# Altium footprint library WE-OLRM.PcbLib: 3 footprints
Each footprint in its own frame and in the unit in brackets; x right, y up, seen from the top. Pads: shape width x height; smd on the part's side, far side on the other; paste and mask are expansions set on the pad; w line width, h text height; cw(c..) or ccw(c..) is an arc to the next point about the centre after c.
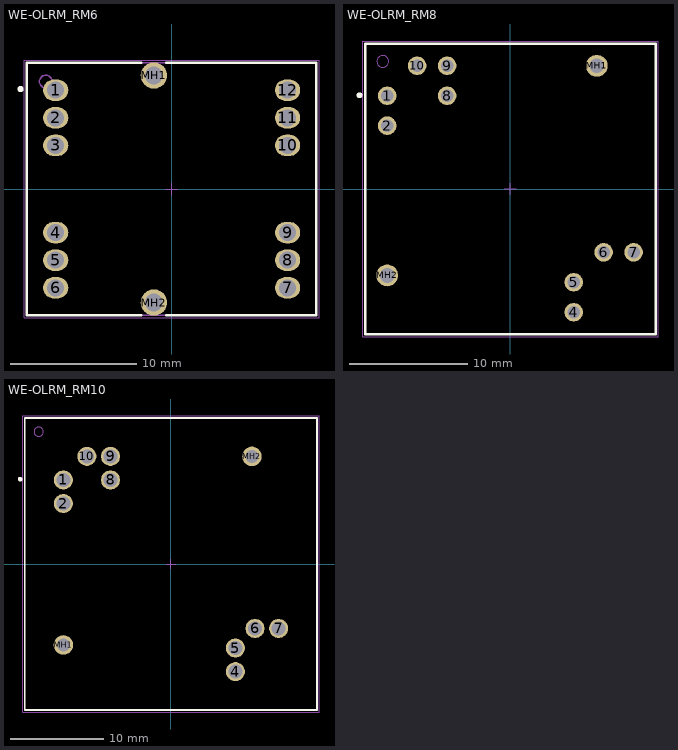
[diagram p0: the footprints below, top view; thin cyan lines are the x and y axes]

## WE-OLRM_RM6 [mm] "Offline Flyback Transformer, THT, body 23 x 20.07 mm"
height 15
pads (14):
  oval 2x1.7 hole 1.35: 1(-9.21,7.845) 2(-9.21,5.655) 3(-9.21,3.465) 4(-9.21,-3.465) 5(-9.21,-5.655) 6(-9.21,-7.845) 7(9.21,-7.845) 8(9.21,-5.655) 9(9.21,-3.465) 10(9.21,3.465) 11(9.21,5.655) 12(9.21,7.845)
  round 2.1 hole 1.4: MH1(-1.41,9.015) MH2(-1.41,-9.015)
Top Overlay:
  circle w0.25: c-12,7.935 r0.125
  lines w0.2: -2.4,-10.035 -11.5,-10.035 -11.5,10.035 -2.4,10.035 ; -0.42,-10.035 11.5,-10.035 11.5,10.035 -0.42,10.035
Top Designator:
  text ".Designator" at -7.498,-0.5 h1.5
Top Component Outline:
  circle w0.1: c-10,8.535 r0.5
  lines w0.1: -11.5,-10.035 11.5,-10.035 11.5,10.035 -11.5,10.035 -11.5,-10.035
Top Courtyard:
  lines w0.05: -0.5,0 0.5,0 ; 0,-0.5 0,0.5 ; -11.7,-10.235 11.7,-10.235 11.7,10.235 -11.7,10.235 -11.7,-10.235
3D body "Download_STP_070-6915 (rev1).STEP": height 14.35, standoff -4.52, extent -11.01,-9.406 11.01,9.406

## WE-OLRM_RM8 [mm] "Offline Flyback Transformer, THT, body 24.64 x 24.64 mm"
height 17.32
pads (11):
  round 1.57 hole 1.07: 1(-10.45,7.91) 2(-10.45,5.37) 4(5.37,-10.45) 5(5.37,-7.91) 6(7.91,-5.37) 7(10.45,-5.37) 8(-5.37,7.91) 9(-5.37,10.45) 10(-7.91,10.45)
  round 1.85 hole 1.25: MH1(7.33,10.45) MH2(-10.45,-7.33)
Top Overlay:
  circle w0.25: c-12.8,7.95 r0.125
  lines w0.2: -12.32,-12.32 -12.32,12.32 12.32,12.32 12.32,-12.32 -12.32,-12.32
Top Designator:
  text ".Designator" at -7.498,-0.5 h1.5
Top Component Outline:
  circle w0.1: c-10.82,10.82 r0.5
  lines w0.1: -12.32,-12.32 -12.32,12.32 12.32,12.32 12.32,-12.32 -12.32,-12.32
Top Courtyard:
  lines w0.05: -0.5,0 0.5,0 ; 0,-0.5 0,0.5 ; -12.52,-12.52 -12.52,12.52 12.52,12.52 12.52,-12.52 -12.52,-12.52
3D body "Download_STP_070-6836 (rev1).STEP": height 16.84, standoff -3.41, extent -12.273,-12.273 12.273,12.273

## WE-OLRM_RM10 [mm] "Offline Flyback Transformer, THT, body 31.50 x 31.50 mm"
height 20.5
pads (11):
  round 2.05 hole 1.5: 1(-11.595,9.055) 2(-11.595,6.515) 4(6.945,-11.595) 5(6.945,-9.055) 6(9.055,-6.945) 7(11.595,-6.945) 8(-6.515,9.055) 9(-6.515,11.595) 10(-9.055,11.595)
  round 2.1 hole 1.4: MH1(-11.595,-8.725) MH2(8.725,11.595)
Top Overlay:
  circle w0.25: c-16.25,9.15 r0.125
  lines w0.2: -15.75,-15.75 -15.75,15.75 15.75,15.75 15.75,-15.75 -15.75,-15.75
Top Designator:
  text ".Designator" at -7.498,-0.5 h1.5
Top Component Outline:
  circle w0.1: c-14.25,14.25 r0.5
  lines w0.1: -15.75,-15.75 -15.75,15.75 15.75,15.75 15.75,-15.75 -15.75,-15.75
Top Courtyard:
  lines w0.05: -0.5,0 0.5,0 ; 0,-0.5 0,0.5 ; -15.95,-15.95 -15.95,15.95 15.95,15.95 15.95,-15.95 -15.95,-15.95
3D body "Download_STP_070-6920_MP3 (rev1).STEP": height 19.25, standoff -2.72, extent -13.855,-13.339 13.342,13.858